# EAGLE library part SN65HVD233D (library motorFeedback)
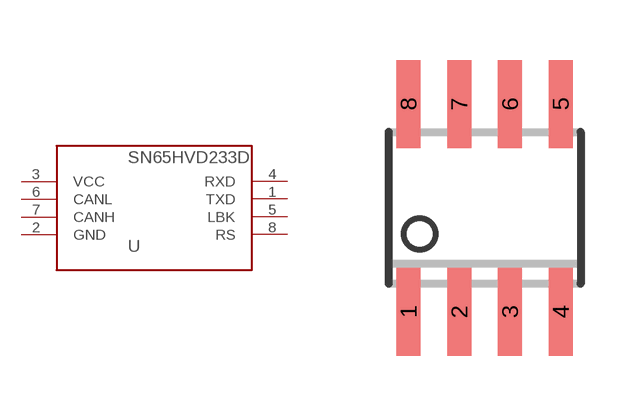
[diagram p10: symbol with the pads of SOIC8; footprint SOIC8]

Designator prefix -

## SN65HVD233D  [SOIC8]
1  TXD
2  GND  pwr
3  VCC  pwr
4  RXD  out
5  LBK  out
6  CANL
7  CANH
8  RS  in

## Footprint SOIC8 (pad centres in mm)
Small Outline IC
smd 0.6 x 2.2: 1 -1.905,-2.6; 2 -0.635,-2.6; 3 0.635,-2.6; 4 1.905,-2.6; 5 1.905,2.6; 6 0.635,2.6; 7 -0.635,2.6; 8 -1.905,2.6